# EAGLE library part ESP201 (library esp-library)
ESP8266 Wifi module ESP201
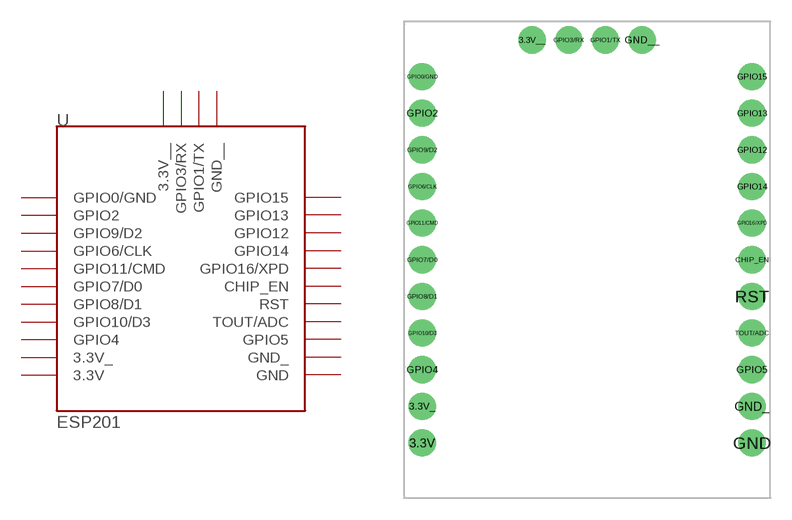
[diagram p9: symbol with the pads of ESP201; footprint ESP201]

Designator prefix -

## ESP201  [ESP201]
3.3V  3.3V
3.3V_  3.3V_
3.3V__  3.3V__
CHIP_EN  CHIP_EN
GND  GND
GND_  GND_
GND__  GND__
GPIO0/GND  GPIO0/GND
GPIO1/TX  GPIO1/TX
GPIO2  GPIO2
GPIO3/RX  GPIO3/RX
GPIO4  GPIO4
GPIO5  GPIO5
GPIO6/CLK  GPIO6/CLK
GPIO7/D0  GPIO7/D0
GPIO8/D1  GPIO8/D1
GPIO9/D2  GPIO9/D2
GPIO10/D3  GPIO10/D3
GPIO11/CMD  GPIO11/CMD
GPIO12  GPIO12
GPIO13  GPIO13
GPIO14  GPIO14
GPIO15  GPIO15
GPIO16/XPD  GPIO16/XPD
RST  RST
TOUT/ADC  TOUT/ADC

## Footprint ESP201 (pad centres in mm)
drill 1.016 pad 1.88: 3.3V -11.43,-13.97; 3.3V_ -11.43,-11.43; 3.3V__ -3.81,13.97; CHIP_EN 11.43,-1.27; GND 11.43,-13.97; GND_ 11.43,-11.43; GND__ 3.81,13.97; GPIO0/GND -11.43,11.43; GPIO1/TX 1.27,13.97; GPIO2 -11.43,8.89; GPIO3/RX -1.27,13.97; GPIO4 -11.43,-8.89; GPIO5 11.43,-8.89; GPIO6/CLK -11.43,3.81; GPIO7/D0 -11.43,-1.27; GPIO8/D1 -11.43,-3.81; GPIO9/D2 -11.43,6.35; GPIO10/D3 -11.43,-6.35; GPIO11/CMD -11.43,1.27; GPIO12 11.43,6.35; GPIO13 11.43,8.89; GPIO14 11.43,3.81; GPIO15 11.43,11.43; GPIO16/XPD 11.43,1.27; RST 11.43,-3.81; TOUT/ADC 11.43,-6.35